# Altium schematic symbol library Inductor_4D28 (4730).SchLib: 1 symbol
Pins are listed as number, name and electrical type; pins without a type are passive.

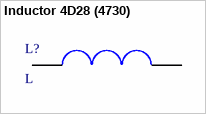
[diagram p0: symbol Inductor 4D28 (4730)]

## Inductor 4D28 (4730)
designator L?, comment L